# Altium schematic symbol library FAN1112.SchLib: 1 symbol
Pins are listed as number, name and electrical type; pins without a type are passive.

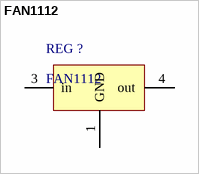
[diagram p0: symbol FAN1112]

## FAN1112
designator REG ?
1A 1.2V Low Dropout Linear Regulator
footprint SOT223 (Footprint not found)
footprint Model Name (Footprint not found)
pins: 1 GND, 3 in, 4 out